# Altium integrated library TI Power Management Battery Management.IntLib: 949 symbols (part 37 of 62)
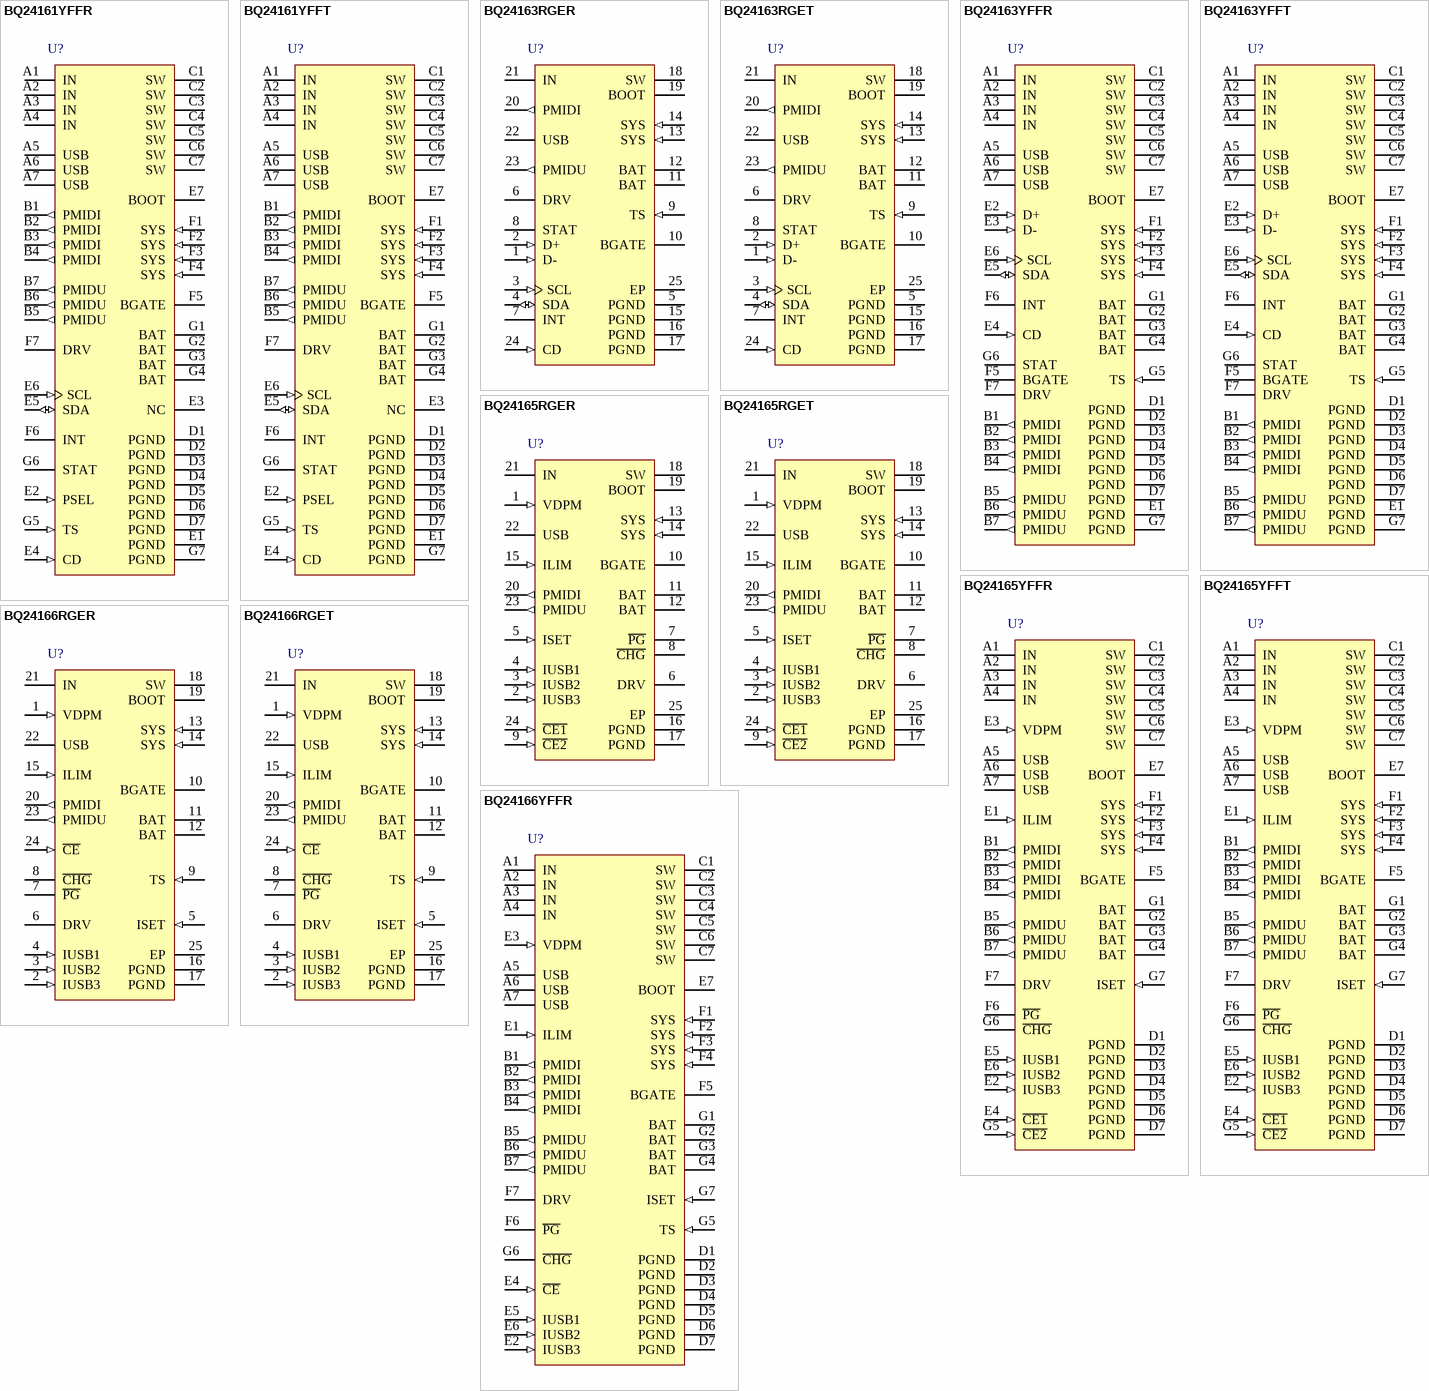
[diagram p70: symbols BQ24161YFFR to BQ24166YFFR]

## BQ24163YFFT
designator U?
2.5 A, Dual-Input, Single Cell Switchmode Li-Ion Battery Charger with Power Path, 4 V, -40 to 85 degC, 49-pin DSBGA (YFF); PartNumber: BQ24163YFFT; Manufacturer: Texas Instruments; Lead Acid: N; Li-Ion: Y; SubFamily: Battery Charge Management; Vin(Min)(V): 4; DatasheetVersion: SLUSAO0A; PackageVersion: revAG, Jun-2012; PackageReference: YFF49-2741X2741DE; PackageDescription: 49-Ball Die-Size Ball Grid Array 0.4 mm Pitch, Pb-Free; Supplier 1: Mouser; Supplier Part Number 1: N/A; Li-Polymer: Y; NiCd: N; NiMH: N; Over Voltage Protection: N; Mounting Technology: Surface Mount; ComponentLink1Description: Datasheet; ComponentLink1URL: http://www.ti.com/general/docs/lit/getliterature.tsp?genericPartNumber=BQ24163&fileType=pdf
footprint YFF49-2741X2741DE (BGA, 49-Leads, Body 2.74x2.74mm, Pitch 0.4mm, Solder Mask Defined Pads)
pins: A1 IN (power) "Input power supply - IN is connected to the external DC supply (AC adapter or alternate power source). Bypass IN to PGND with at least a 1µF ceramic capacitor.", A2 IN (power) "Input power supply - IN is connected to the external DC supply (AC adapter or alternate power source). Bypass IN to PGND with at least a 1µF ceramic capacitor.", A3 IN (power) "Input power supply - IN is connected to the external DC supply (AC adapter or alternate power source). Bypass IN to PGND with at least a 1µF ceramic capacitor.", A4 IN (power) "Input power supply - IN is connected to the external DC supply (AC adapter or alternate power source). Bypass IN to PGND with at least a 1µF ceramic capacitor.", A5 USB (power) "USB Input Power Supply - USB is connected to the external DC supply (AC adapter or USB port). Bypass USB to PGND with at least a 1µF ceramic capacitor.", A6 USB (power) "USB Input Power Supply - USB is connected to the external DC supply (AC adapter or USB port). Bypass USB to PGND with at least a 1µF ceramic capacitor.", A7 USB (power) "USB Input Power Supply - USB is connected to the external DC supply (AC adapter or USB port). Bypass USB to PGND with at least a 1µF ceramic capacitor.", B1 PMIDI (out) "Reverse Blocking MOSFET and High Side MOSFET Connection Point for High Power Input - Bypass PMIDI to GND with at least a 4.7µF ceramic capacitor. Use caution when connecting an external load to PMIDI. The PMIDI output is not (See Datasheet)", B2 PMIDI (out) "Reverse Blocking MOSFET and High Side MOSFET Connection Point for High Power Input - Bypass PMIDI to GND with at least a 4.7µF ceramic capacitor. Use caution when connecting an external load to PMIDI. The PMIDI output is not (See Datasheet)", B3 PMIDI (out) "Reverse Blocking MOSFET and High Side MOSFET Connection Point for High Power Input - Bypass PMIDI to GND with at least a 4.7µF ceramic capacitor. Use caution when connecting an external load to PMIDI. The PMIDI output is not (See Datasheet)", B4 PMIDI (out) "Reverse Blocking MOSFET and High Side MOSFET Connection Point for High Power Input - Bypass PMIDI to GND with at least a 4.7µF ceramic capacitor. Use caution when connecting an external load to PMIDI. The PMIDI output is not (See Datasheet)", B5 PMIDU (out) "Reverse Blocking MOSFET and High Side MOSFET Connection Point for USB Input - Bypass PMIDU to GND with at least a 4.7µF ceramic capacitor. Use caution when connecting an external load to PMIDU. The PMIDU output is not (See Datasheet)", B6 PMIDU (out) "Reverse Blocking MOSFET and High Side MOSFET Connection Point for USB Input - Bypass PMIDU to GND with at least a 4.7µF ceramic capacitor. Use caution when connecting an external load to PMIDU. The PMIDU output is not (See Datasheet)", B7 PMIDU (out) "Reverse Blocking MOSFET and High Side MOSFET Connection Point for USB Input - Bypass PMIDU to GND with at least a 4.7µF ceramic capacitor. Use caution when connecting an external load to PMIDU. The PMIDU output is not (See Datasheet)", C1 SW (power) "Inductor Connection - Connect to the switched side of the external inductor.", C2 SW (power) "Inductor Connection - Connect to the switched side of the external inductor.", C3 SW (power) "Inductor Connection - Connect to the switched side of the external inductor.", C4 SW (power) "Inductor Connection - Connect to the switched side of the external inductor.", C5 SW (power) "Inductor Connection - Connect to the switched side of the external inductor.", C6 SW (power) "Inductor Connection - Connect to the switched side of the external inductor.", C7 SW (power) "Inductor Connection - Connect to the switched side of the external inductor.", D1 PGND (power) "Ground terminal - Connect to the thermal pad (for QFN only) and the ground plane of the circuit.", D2 PGND (power) "Ground terminal - Connect to the thermal pad (for QFN only) and the ground plane of the circuit.", D3 PGND (power) "Ground terminal - Connect to the thermal pad (for QFN only) and the ground plane of the circuit.", D4 PGND (power) "Ground terminal - Connect to the thermal pad (for QFN only) and the ground plane of the circuit.", D5 PGND (power) "Ground terminal - Connect to the thermal pad (for QFN only) and the ground plane of the circuit.", D6 PGND (power) "Ground terminal - Connect to the thermal pad (for QFN only) and the ground plane of the circuit.", D7 PGND (power) "Ground terminal - Connect to the thermal pad (for QFN only) and the ground plane of the circuit.", E1 PGND (power) "Ground terminal - Connect to the thermal pad (for QFN only) and the ground plane of the circuit.", E2 D+ (in) "D+ and D- Connections for USB Input Adapter Detection - When a charge cycle is initiated by the USB input, and a short is detected between D+ and D-, the USB input current limit is set to 1.5A. If a short is not detected, (See Datasheet)", E3 D- (in) "D+ and D- Connections for USB Input Adapter Detection - When a charge cycle is initiated by the USB input, and a short is detected between D+ and D-, the USB input current limit is set to 1.5A. If a short is not detected, (See Datasheet)", E4 CD (in) "IC Hardware Disable Input - Drive CD high to place the bq2416x in high-z mode. Drive CD low for normal operation. Do not leave CD unconnected.", E5 SDA (io) "I2C Interface Data - Connect SDA to the logic rail through a 10kohm resistor.", E6 SCL (in) "I2C Interface Clock - Connect SCL to the logic rail through a 10kohm resistor.", E7 BOOT (power) "High Side MOSFET Gate Driver Supply - Connect a 0.01µF ceramic capacitor (voltage rating > 10V) from BOOT to SW to supply the gate drive for the high side MOSFETs.", F1 SYS (in) "System Voltage Sense and Charger FET Connection - Connect SYS to the system output at the output bulk capacitors. Bypass SYS locally with at least 10µF. A 47µF bypass capacitor is recommended for optimal transient response.", F2 SYS (in) "System Voltage Sense and Charger FET Connection - Connect SYS to the system output at the output bulk capacitors. Bypass SYS locally with at least 10µF. A 47µF bypass capacitor is recommended for optimal transient response.", F3 SYS (in) "System Voltage Sense and Charger FET Connection - Connect SYS to the system output at the output bulk capacitors. Bypass SYS locally with at least 10µF. A 47µF bypass capacitor is recommended for optimal transient response.", F4 SYS (in) "System Voltage Sense and Charger FET Connection - Connect SYS to the system output at the output bulk capacitors. Bypass SYS locally with at least 10µF. A 47µF bypass capacitor is recommended for optimal transient response.", F5 BGATE "External Discharge MOSFET Gate Connection - BGATE drives an external P-Channel MOSFET to provide a very low-resistance discharge path. Connect BGATE to the gate of the external MOSFET. BGATE is low during high impedance mode (See Datasheet)", F6 INT (hiz) "Status Output - INT is an open-drain output that signals charging status and fault interrupts.INT pulls low during charging. INT is high impedance when charging is complete or the charger is disabled. When a fault occurs, a (See Datasheet)", F7 DRV (power) "Gate Drive Supply - DRV is the bias supply for the gate drive of the internal MOSFETs. Bypass DRV to PGND with a 1µF ceramic capacitor. DRV may be used to drive external loads up to 10mA. DRV is active whenever the input is (See Datasheet)", G1 BAT (power) "Battery Connection - Connect to the positive terminal of the battery. Additionally, bypass BAT to GND with at least a 1µF capacitor.", G2 BAT (power) "Battery Connection - Connect to the positive terminal of the battery. Additionally, bypass BAT to GND with at least a 1µF capacitor.", G3 BAT (power) "Battery Connection - Connect to the positive terminal of the battery. Additionally, bypass BAT to GND with at least a 1µF capacitor.", G4 BAT (power) "Battery Connection - Connect to the positive terminal of the battery. Additionally, bypass BAT to GND with at least a 1µF capacitor.", G5 TS (in) "Battery Pack NTC Monitor - Connect TS to the center tap of a resistor divider from DRV to GND. The NTC is connected from TS to GND. The TS function provides 4 thresholds for JEITA compatibility (160/163/168 only). TS faults (See Datasheet)", G6 STAT (hiz) "I2C interface. See the NTC Monitor section for more details on operation and selecting the resistor values. Connect TS to DRV to disable the TS function.", G7 PGND (power) "Ground terminal - Connect to the thermal pad (for QFN only) and the ground plane of the circuit."

## BQ24165RGER
designator U?
2.5 A, Dual-Input, Single Cell Switchmode Li-Ion Battery Charger with Power Path Management, 4 V, -40 to 85 degC, 24-pin VQFN (RGE), Green (RoHS & no Sb/Br); PartNumber: BQ24165RGER; Manufacturer: Texas Instruments; Lead Acid: N; Li-Ion: Y; SubFamily: Battery Charge Management; Vin(Min)(V): 4; DatasheetVersion: SLUSAP4A; PackageVersion: revG, Jul-2011; PackageReference: RGE24-2700X2700TP; PackageDescription: 24-Pin Plastic Quad Flatpack No-Lead, 4 x 4 mm Body, 0.5 mm Pitch; Supplier 1: Digi-Key; Supplier Part Number 1: BQ24165RGER-ND; Supplier 2: Newark; Supplier Part Number 2: 94T0297; Supplier 3: Mouser; Supplier Part Number 3: 595-BQ24165RGER; Eco-Plan: Green (RoHS & no Sb/Br); Li-Polymer: Y; NiCd: N; NiMH: N; Over Voltage Protection: N; Mounting Technology: Surface Mount; Code_JEDEC: MO-220; ComponentLink1Description: Datasheet; ComponentLink1URL: http://www.ti.com/general/docs/lit/getliterature.tsp?genericPartNumber=BQ24165&fileType=pdf
footprint RGE24-2700X2700TP (QFN, 24-Leads, Body 4x4mm, Pitch 0.5mm, Thermal Pad 2.7x2.7mm, TI Recommended)
pins: 1 VDPM (in) "Input DPM Programming Input. Connect a resistor divider from IN to GND with VDPM connected to the center tap to program the Input Voltage based Dynamic Power Management (VIN-DPM) threshold. The input current is reduced to (See Datasheet)", 2 IUSB3 (in) "USB Input Current Limit Programming Input. USB3 program the input current limit for the USB input.  USB3.0 current limit is available for easy implementation of these standards. Table 1 shows the settings for these inputs.  (See Datasheet)", 3 IUSB2 (in) "USB Input Current Limit Programming Input. USB2 program the input current limit for the USB input. USB2.0  current limits are available for easy implementation of these standards. Table 1 shows the settings for these inputs. (See Datasheet)", 4 IUSB1 (in) "USB Input Current Limit Programming Input. USB1 program the input current limit for the USB input.  Table 1 shows the settings for these inputs. USB1 have no effect on the IN input", 5 ISET (in) "Charge Current Programming Input. Connect a resistor from ISET to GND to program the fast charge current. The charge current is programmable from 550mA to 2.5A.", 6 DRV (power) "Gate Drive Supply. DRV is the bias supply for the gate drive of the internal MOSFETs. Bypass DRV to PGND with a 1uF ceramic capacitor. DRV may be used to drive external loads up to 10mA. DRV is active whenever the input is (See Datasheet)", 7 ~{PG} (hiz) "Power Good Open Drain Output. P\G\  is pulled low when a valid supply is connected to either USB or IN. A valid supply is between VBAT+VSLP and VOVP. If not supply is connected or the supply is out of this range, P\G\ is (See Datasheet)", 8 ~{CHG} (hiz) "Charge Status Open Drain Output. C\H\G\ is pulled low when a charge cycle starts and remains low while charging. C\H\G\ is high impedance when the charging terminates and when no supply exists. C\H\G\ does not indicate (See Datasheet)", 9 ~{CE2} (in) "JEITA Compliance Inputs. C\E\1\ and C\E\2\ are used to change battery regulation and charge current regulation to comply with the JEITA charging standard. The charge voltage can be reduced by 140mV or the charge current may (See Datasheet)", 10 BGATE (hiz) "External Discharge MOSFET Gate Connection. BGATE drives an external PChannel MOSFET to provide a very low resistance discharge path. Connect BGATE to the gate of the external MOSFET. BGATE is low during high impedance mode (See Datasheet)", 11 BAT (power) "Battery Connection. Connect to the positive terminal of the battery. Additionally, bypass BAT to GND with at least a 1uF capacitor", 12 BAT (power) "Battery Connection .Connect to the positive terminal of the battery. Additionally, bypass BAT to GND with at least a 1uF capacitor", 13 SYS (in) "System Voltage Sense and Charger FET Connection . Connect SYS to the system output at the output bulk capacitors. Bypass SYS locally with at least 10uF. A 47uF bypass capacitor is recommended for optimal transient response.", 14 SYS (in) "System Voltage Sense and Charger FET Connection . Connect SYS to the system output at the output bulk capacitors. Bypass SYS locally with at least 10uF. A 47uF bypass capacitor is recommended for optimal transient response.", 15 ILIM (in) "IN Input Current Limit Programming Input. Connect a resistor from ILIM to GND to program the input current limit for IN. The current limit is programmable from 1A to 2.5A. ILIM has no effect on the USB input", 16 PGND (power) "Ground terminal . Connect to the thermal pad (for QFN only) and the ground plane of the circuit.", 17 PGND (power) "Ground terminal . Connect to the thermal pad (for QFN only) and the ground plane of the circuit.", 18 SW (power) "Inductor Connection . Connect to the switched side of the external inductor.", 19 BOOT (power) "High Side MOSFET Gate Driver Supply . Connect a 0.01uF ceramic capacitor (voltage rating > 10V) from BOOT to SW to supply the gate drive for the high side MOSFETs", 20 PMIDI (out) "Reverse Blocking MOSFET and High Side MOSFET Connection Point for High Power Input. Bypass PMIDI to GND with at least a 4.7uF ceramic capacitor. Use caution when connecting an external load to PMIDI. The PMIDI output is not (See Datasheet)", 21 IN (power) "Input power supply . IN is connected to the external DC supply (AC adapter or alternate power source). Bypass IN to PGND with at least a 1uF ceramic capacitor", 22 USB (power) "USB Input Power Supply . USB is connected to the external DC supply (AC adapter or USB port). Bypass USB to PGND with at least a 1uF ceramic capacitor", 23 PMIDU (out) "Reverse Blocking MOSFET and High Side MOSFET Connection Point for USB Input. Bypass PMIDU to GND with at least a 4.7uF ceramic capacitor. Use caution when connecting an external load to PMIDU. The PMIDU output is not current (See Datasheet)", 24 ~{CE1} (in) "JEITA Compliance Inputs. C\E\1\ and C\E\2\ are used to change battery regulation and charge current regulation to comply with the JEITA charging standard. The charge voltage can be reduced by 140mV or the charge current may (See Datasheet)", 25 EP (power) "There is an internal electrical connection between the exposed thermal pad and the PGND pin of the device. The thermal pad must be connected to the same potential as the PGND pin on the printed circuit board. Do not use the (See Datasheet)"

## BQ24165RGET
designator U?
2.5 A, Dual-Input, Single Cell Switchmode Li-Ion Battery Charger with Power Path Management, 4 V, -40 to 85 degC, 24-pin VQFN (RGE), Green (RoHS & no Sb/Br); PartNumber: BQ24165RGET; Manufacturer: Texas Instruments; Lead Acid: N; Li-Ion: y; SubFamily: Battery Charge Management; Vin(Min)(V): 4.0; DatasheetVersion: SLUSAP4A; PackageVersion: revG, Jul-2011; PackageReference: RGE24-2700X2700TP; PackageDescription: 24-Pin Plastic Quad Flatpack No-Lead, 4 x 4 mm Body, 0.5 mm Pitch; Supplier 1: Digi-Key; Supplier Part Number 1: BQ24165RGET-ND; Supplier 2: Newark; Supplier Part Number 2: 94T0298; Supplier 3: Mouser; Supplier Part Number 3: 595-BQ24165RGET; Eco-Plan: Green (RoHS & no Sb/Br); Li-Polymer: y; NiCd: N; NiMH: N; Over Voltage Protection: N; Mounting Technology: Surface Mount; Code_JEDEC: MO-220; ComponentLink1Description: Datasheet; ComponentLink1URL: http://www.ti.com/general/docs/lit/getliterature.tsp?genericPartNumber=BQ24165&fileType=pdf
footprint RGE24-2700X2700TP (QFN, 24-Leads, Body 4x4mm, Pitch 0.5mm, Thermal Pad 2.7x2.7mm, TI Recommended)
pins: 1 VDPM (in) "Input DPM Programming Input. Connect a resistor divider from IN to GND with VDPM connected to the center tap to program the Input Voltage based Dynamic Power Management (VIN-DPM) threshold. The input current is reduced to (See Datasheet)", 2 IUSB3 (in) "USB Input Current Limit Programming Input. USB3 program the input current limit for the USB input.  USB3.0 current limit is available for easy implementation of these standards. Table 1 shows the settings for these inputs.  (See Datasheet)", 3 IUSB2 (in) "USB Input Current Limit Programming Input. USB2 program the input current limit for the USB input. USB2.0  current limits are available for easy implementation of these standards. Table 1 shows the settings for these inputs. (See Datasheet)", 4 IUSB1 (in) "USB Input Current Limit Programming Input. USB1 program the input current limit for the USB input.  Table 1 shows the settings for these inputs. USB1 have no effect on the IN input", 5 ISET (in) "Charge Current Programming Input. Connect a resistor from ISET to GND to program the fast charge current. The charge current is programmable from 550mA to 2.5A.", 6 DRV (power) "Gate Drive Supply. DRV is the bias supply for the gate drive of the internal MOSFETs. Bypass DRV to PGND with a 1uF ceramic capacitor. DRV may be used to drive external loads up to 10mA. DRV is active whenever the input is (See Datasheet)", 7 ~{PG} (hiz) "Power Good Open Drain Output. P\G\  is pulled low when a valid supply is connected to either USB or IN. A valid supply is between VBAT+VSLP and VOVP. If not supply is connected or the supply is out of this range, P\G\ is (See Datasheet)", 8 ~{CHG} (hiz) "Charge Status Open Drain Output. C\H\G\ is pulled low when a charge cycle starts and remains low while charging. C\H\G\ is high impedance when the charging terminates and when no supply exists. C\H\G\ does not indicate (See Datasheet)", 9 ~{CE2} (in) "JEITA Compliance Inputs. C\E\1\ and C\E\2\ are used to change battery regulation and charge current regulation to comply with the JEITA charging standard. The charge voltage can be reduced by 140mV or the charge current may (See Datasheet)", 10 BGATE (hiz) "External Discharge MOSFET Gate Connection. BGATE drives an external PChannel MOSFET to provide a very low resistance discharge path. Connect BGATE to the gate of the external MOSFET. BGATE is low during high impedance mode (See Datasheet)", 11 BAT (power) "Battery Connection. Connect to the positive terminal of the battery. Additionally, bypass BAT to GND with at least a 1uF capacitor", 12 BAT (power) "Battery Connection .Connect to the positive terminal of the battery. Additionally, bypass BAT to GND with at least a 1uF capacitor", 13 SYS (in) "System Voltage Sense and Charger FET Connection . Connect SYS to the system output at the output bulk capacitors. Bypass SYS locally with at least 10uF. A 47uF bypass capacitor is recommended for optimal transient response.", 14 SYS (in) "System Voltage Sense and Charger FET Connection . Connect SYS to the system output at the output bulk capacitors. Bypass SYS locally with at least 10uF. A 47uF bypass capacitor is recommended for optimal transient response.", 15 ILIM (in) "IN Input Current Limit Programming Input. Connect a resistor from ILIM to GND to program the input current limit for IN. The current limit is programmable from 1A to 2.5A. ILIM has no effect on the USB input", 16 PGND (power) "Ground terminal . Connect to the thermal pad (for QFN only) and the ground plane of the circuit.", 17 PGND (power) "Ground terminal . Connect to the thermal pad (for QFN only) and the ground plane of the circuit.", 18 SW (power) "Inductor Connection . Connect to the switched side of the external inductor.", 19 BOOT (power) "High Side MOSFET Gate Driver Supply . Connect a 0.01uF ceramic capacitor (voltage rating > 10V) from BOOT to SW to supply the gate drive for the high side MOSFETs", 20 PMIDI (out) "Reverse Blocking MOSFET and High Side MOSFET Connection Point for High Power Input. Bypass PMIDI to GND with at least a 4.7uF ceramic capacitor. Use caution when connecting an external load to PMIDI. The PMIDI output is not (See Datasheet)", 21 IN (power) "Input power supply . IN is connected to the external DC supply (AC adapter or alternate power source). Bypass IN to PGND with at least a 1uF ceramic capacitor", 22 USB (power) "USB Input Power Supply . USB is connected to the external DC supply (AC adapter or USB port). Bypass USB to PGND with at least a 1uF ceramic capacitor", 23 PMIDU (out) "Reverse Blocking MOSFET and High Side MOSFET Connection Point for USB Input. Bypass PMIDU to GND with at least a 4.7uF ceramic capacitor. Use caution when connecting an external load to PMIDU. The PMIDU output is not current (See Datasheet)", 24 ~{CE1} (in) "JEITA Compliance Inputs. C\E\1\ and C\E\2\ are used to change battery regulation and charge current regulation to comply with the JEITA charging standard. The charge voltage can be reduced by 140mV or the charge current may (See Datasheet)", 25 EP (power) "There is an internal electrical connection between the exposed thermal pad and the PGND pin of the device. The thermal pad must be connected to the same potential as the PGND pin on the printed circuit board. Do not use the (See Datasheet)"

## BQ24165YFFR
designator U?
2.5 A, Dual-Input, Single Cell Switchmode Li-Ion Battery Charger with Power Path Management, 4 V, -40 to 85 degC, 49-pin DSBGA (YFF), Green (RoHS & no Sb/Br); PartNumber: BQ24165YFFR; Manufacturer: Texas Instruments; Lead Acid: N; Li-Ion: Y; SubFamily: Battery Charge Management; Vin(Min)(V): 4; DatasheetVersion: SLUSAP4A; PackageVersion: revAH, Jul-2012; PackageReference: YFF49-2780X2780DE; PackageDescription: 49-Ball Die-Size Ball Grid Array 0.4 mm Pitch, Pb-Free; Supplier 1: Digi-Key; Supplier Part Number 1: 296-30104-2-ND; Supplier 2: Digi-Key; Supplier Part Number 2: 296-30104-1-ND; Supplier 3: Digi-Key; Supplier Part Number 3: 296-30104-6-ND; Supplier 4: Newark; Supplier Part Number 4: 76T5261; Supplier 5: Mouser; Supplier Part Number 5: 595-BQ24165YFFR; Eco-Plan: Green (RoHS & no Sb/Br); Li-Polymer: Y; NiCd: N; NiMH: N; Over Voltage Protection: N; Mounting Technology: Surface Mount; ComponentLink1Description: Datasheet; ComponentLink1URL: http://www.ti.com/general/docs/lit/getliterature.tsp?genericPartNumber=BQ24165&fileType=pdf
footprint YFF49-2780X2780DE (BGA, 49-Leads, Body 2.78x2.78mm, Pitch 0.4mm, Solder Mask Defined Pads)
pins: A1 IN (power) "Input power supply - IN is connected to the external DC supply (AC adapter or alternate power source). Bypass IN to PGND with at least a 1uF ceramic capacitor", A2 IN (power) "Input power supply - IN is connected to the external DC supply (AC adapter or alternate power source). Bypass IN to PGND with at least a 1uF ceramic capacitor", A3 IN (power) "Input power supply - IN is connected to the external DC supply (AC adapter or alternate power source). Bypass IN to PGND with at least a 1uF ceramic capacitor", A4 IN (power) "Input power supply - IN is connected to the external DC supply (AC adapter or alternate power source). Bypass IN to PGND with at least a 1uF ceramic capacitor", A5 USB (power) "USB Input Power Supply - USB is connected to the external DC supply (AC adapter or USB port). Bypass USB to PGND with at least a 1uF ceramic capacitor", A6 USB (power) "USB Input Power Supply - USB is connected to the external DC supply (AC adapter or USB port). Bypass USB to PGND with at least a 1uF ceramic capacitor", A7 USB (power) "USB Input Power Supply - USB is connected to the external DC supply (AC adapter or USB port). Bypass USB to PGND with at least a 1uF ceramic capacitor", B1 PMIDI (out) "Reverse Blocking MOSFET and High Side MOSFET Connection Point for High Power Input - Bypass PMIDI to GND with at least a 4.7uF ceramic capacitor. Use caution when connecting an external load to PMIDI. The PMIDI output is not (See Datasheet)", B2 PMIDI (out) "Reverse Blocking MOSFET and High Side MOSFET Connection Point for High Power Input - Bypass PMIDI to GND with at least a 4.7uF ceramic capacitor. Use caution when connecting an external load to PMIDI. The PMIDI output is not (See Datasheet)", B3 PMIDI (out) "Reverse Blocking MOSFET and High Side MOSFET Connection Point for High Power Input - Bypass PMIDI to GND with at least a 4.7uF ceramic capacitor. Use caution when connecting an external load to PMIDI. The PMIDI output is not (See Datasheet)", B4 PMIDI (out) "Reverse Blocking MOSFET and High Side MOSFET Connection Point for High Power Input - Bypass PMIDI to GND with at least a 4.7uF ceramic capacitor. Use caution when connecting an external load to PMIDI. The PMIDI output is not (See Datasheet)", B5 PMIDU (out) "Reverse Blocking MOSFET and High Side MOSFET Connection Point for USB Input - Bypass PMIDU to GND with at least a 4.7uF ceramic capacitor. Use caution when connecting an external load to PMIDU. The PMIDU output is not (See Datasheet)", B6 PMIDU (out) "Reverse Blocking MOSFET and High Side MOSFET Connection Point for USB Input - Bypass PMIDU to GND with at least a 4.7uF ceramic capacitor. Use caution when connecting an external load to PMIDU. The PMIDU output is not (See Datasheet)", B7 PMIDU (out) "Reverse Blocking MOSFET and High Side MOSFET Connection Point for USB Input - Bypass PMIDU to GND with at least a 4.7uF ceramic capacitor. Use caution when connecting an external load to PMIDU. The PMIDU output is not (See Datasheet)", C1 SW (power) "Inductor Connection - Connect to the switched side of the external inductor.", C2 SW (power) "Inductor Connection - Connect to the switched side of the external inductor.", C3 SW (power) "Inductor Connection - Connect to the switched side of the external inductor.", C4 SW (power) "Inductor Connection - Connect to the switched side of the external inductor.", C5 SW (power) "Inductor Connection - Connect to the switched side of the external inductor.", C6 SW (power) "Inductor Connection - Connect to the switched side of the external inductor.", C7 SW (power) "Inductor Connection - Connect to the switched side of the external inductor.", D1 PGND (power) "Ground terminal - Connect to the thermal pad (for QFN only) and the ground plane of the circuit.", D2 PGND (power) "Ground terminal - Connect to the thermal pad (for QFN only) and the ground plane of the circuit.", D3 PGND (power) "Ground terminal - Connect to the thermal pad (for QFN only) and the ground plane of the circuit.", D4 PGND (power) "Ground terminal - Connect to the thermal pad (for QFN only) and the ground plane of the circuit.", D5 PGND (power) "Ground terminal - Connect to the thermal pad (for QFN only) and the ground plane of the circuit.", D6 PGND (power) "Ground terminal - Connect to the thermal pad (for QFN only) and the ground plane of the circuit.", D7 PGND (power) "Ground terminal - Connect to the thermal pad (for QFN only) and the ground plane of the circuit.", E1 ILIM (in) "IN Input Current Limit Programming Input. Connect a resistor from ILIM to GND to program the input current limit for IN. The current limit is programmable from 1A to 2.5A. ILIM has no effect on the USB input", E2 IUSB3 (in) "USB Input Current Limit Programming Inputs. USB1, USB2 and USB3 program the input current limit for the USB input. USB2.0 and USB3.0 current limits are available for easy implementation of these standards. Table 1 shows the (See Datasheet)", E3 VDPM (in) "Input DPM Programming Input. Connect a resistor divider from IN to GND with VDPM connected to the center tap to program the Input Voltage based Dynamic Power Management (VIN-DPM) threshold. The input current is reduced to (See Datasheet)", E4 ~{CE1} (in) "JEITA Compliance Inputs. C\E\1\ and C\E\2\ are used to change battery regulation and charge current regulation to comply with the JEITA charging standard. The charge voltage can be reduced by 140mV or the charge current may (See Datasheet)", E5 IUSB1 (in) "USB Input Current Limit Programming Inputs. USB1, USB2 and USB3 program the input current limit for the USB input. USB2.0 and USB3.0 current limits are available for easy implementation of these standards. Table 1 shows the (See Datasheet)", E6 IUSB2 (in) "USB Input Current Limit Programming Inputs. USB1, USB2 and USB3 program the input current limit for the USB input. USB2.0 and USB3.0 current limits are available for easy implementation of these standards. Table 1 shows the (See Datasheet)", E7 BOOT (power) "High Side MOSFET Gate Driver Supply - Connect a 0.01µF ceramic capacitor (voltage rating > 10V) from BOOT to SW to supply the gate drive for the high side MOSFETs", F1 SYS (in) "System Voltage Sense and Charger FET Connection - Connect SYS to the system output at the output bulk capacitors. Bypass SYS locally with at least 10uF. A 47uF bypass capacitor is recommended for optimal transient response.", F2 SYS (in) "System Voltage Sense and Charger FET Connection - Connect SYS to the system output at the output bulk capacitors. Bypass SYS locally with at least 10uF. A 47uF bypass capacitor is recommended for optimal transient response.", F3 SYS (in) "System Voltage Sense and Charger FET Connection - Connect SYS to the system output at the output bulk capacitors. Bypass SYS locally with at least 10uF. A 47uF bypass capacitor is recommended for optimal transient response.", F4 SYS (in) "System Voltage Sense and Charger FET Connection - Connect SYS to the system output at the output bulk capacitors. Bypass SYS locally with at least 10uF. A 47uF bypass capacitor is recommended for optimal transient response.", F5 BGATE "External Discharge MOSFET Gate Connection - BGATE drives an external PChannel MOSFET to provide a very low-resistance discharge path. Connect BGATE to the gate of the external MOSFET. BGATE is low during high impedance mode (See Datasheet)", F6 ~{PG} (hiz) "Power Good Open Drain Output. P\G\  is pulled low when a valid supply is connected to either USB or IN. A valid supply is between VBAT+VSLP and VOVP. If not supply is connected or the supply is out of this range, P\G\ is high (See Datasheet)", F7 DRV (power) "Gate Drive Supply - DRV is the bias supply for the gate drive of the internal MOSFETs. Bypass DRV to PGND with a 1uF ceramic capacitor. DRV may be used to drive external loads up to 10mA. DRV is active whenever the input is (See Datasheet)", G1 BAT (power) "Battery Connection - Connect to the positive terminal of the battery. Additionally, bypass BAT to GND with at least a 1uF capacitor", G2 BAT (power) "Battery Connection - Connect to the positive terminal of the battery. Additionally, bypass BAT to GND with at least a 1uF capacitor", G3 BAT (power) "Battery Connection - Connect to the positive terminal of the battery. Additionally, bypass BAT to GND with at least a 1uF capacitor", G4 BAT (power) "Battery Connection - Connect to the positive terminal of the battery. Additionally, bypass BAT to GND with at least a 1uF capacitor", G5 ~{CE2} (in) "JEITA Compliance Inputs. C\E\1\ and C\E\2\ are used to change battery regulation and charge current regulation to comply with the JEITA charging standard. The charge voltage can be reduced by 140mV or the charge current may (See Datasheet)", G6 ~{CHG} (hiz) "Charge Status Open Drain Output. C\H\G\ is pulled low when a charge cycle starts and remains low while charging. C\H\G\ is high impedance when the charging terminates and when no supply exists. C\H\G\ does not indicate (See Datasheet)", G7 ISET (in) "Charge Current Programming Input. Connect a resistor from ISET to GND to program the fast charge current. The charge current is programmable from 550mA to 2.5A."

## BQ24165YFFT
designator U?
2.5 A, Dual-Input, Single Cell Switchmode Li-Ion Battery Charger with Power Path Management, 4 V, -40 to 85 degC, 49-pin DSBGA (YFF), Green (RoHS & no Sb/Br); PartNumber: BQ24165YFFT; Manufacturer: Texas Instruments; Lead Acid: N; Li-Ion: Y; SubFamily: Battery Charge Management; Vin(Min)(V): 4.0; DatasheetVersion: SLUSAP4A; PackageVersion: revAH, Jul-2012; PackageReference: YFF49-2780X2780DE; PackageDescription: 49-Ball Die-Size Ball Grid Array 0.4 mm Pitch, Pb-Free; Supplier 1: Digi-Key; Supplier Part Number 1: 296-30166-2-ND; Supplier 2: Digi-Key; Supplier Part Number 2: 296-30166-1-ND; Supplier 3: Digi-Key; Supplier Part Number 3: 296-30166-6-ND; Supplier 4: Farnell; Supplier Part Number 4: 2078507; Supplier 5: Newark; Supplier Part Number 5: 83T0351; Supplier 6: Newark; Supplier Part Number 6: 76T5262; Supplier 7: Mouser; Supplier Part Number 7: 595-BQ24165YFFT; Eco-Plan: Green (RoHS & no Sb/Br); Li-Polymer: Y; NiCd: N; NiMH: N; Over Voltage Protection: N; Mounting Technology: Surface Mount; ComponentLink1Description: Datasheet; ComponentLink1URL: http://www.ti.com/general/docs/lit/getliterature.tsp?genericPartNumber=BQ24165&fileType=pdf
footprint YFF49-2780X2780DE (BGA, 49-Leads, Body 2.78x2.78mm, Pitch 0.4mm, Solder Mask Defined Pads)
pins: A1 IN (power) "Input power supply - IN is connected to the external DC supply (AC adapter or alternate power source). Bypass IN to PGND with at least a 1uF ceramic capacitor", A2 IN (power) "Input power supply - IN is connected to the external DC supply (AC adapter or alternate power source). Bypass IN to PGND with at least a 1uF ceramic capacitor", A3 IN (power) "Input power supply - IN is connected to the external DC supply (AC adapter or alternate power source). Bypass IN to PGND with at least a 1uF ceramic capacitor", A4 IN (power) "Input power supply - IN is connected to the external DC supply (AC adapter or alternate power source). Bypass IN to PGND with at least a 1uF ceramic capacitor", A5 USB (power) "USB Input Power Supply - USB is connected to the external DC supply (AC adapter or USB port). Bypass USB to PGND with at least a 1uF ceramic capacitor", A6 USB (power) "USB Input Power Supply - USB is connected to the external DC supply (AC adapter or USB port). Bypass USB to PGND with at least a 1uF ceramic capacitor", A7 USB (power) "USB Input Power Supply - USB is connected to the external DC supply (AC adapter or USB port). Bypass USB to PGND with at least a 1uF ceramic capacitor", B1 PMIDI (out) "Reverse Blocking MOSFET and High Side MOSFET Connection Point for High Power Input - Bypass PMIDI to GND with at least a 4.7uF ceramic capacitor. Use caution when connecting an external load to PMIDI. The PMIDI output is not (See Datasheet)", B2 PMIDI (out) "Reverse Blocking MOSFET and High Side MOSFET Connection Point for High Power Input - Bypass PMIDI to GND with at least a 4.7uF ceramic capacitor. Use caution when connecting an external load to PMIDI. The PMIDI output is not (See Datasheet)", B3 PMIDI (out) "Reverse Blocking MOSFET and High Side MOSFET Connection Point for High Power Input - Bypass PMIDI to GND with at least a 4.7uF ceramic capacitor. Use caution when connecting an external load to PMIDI. The PMIDI output is not (See Datasheet)", B4 PMIDI (out) "Reverse Blocking MOSFET and High Side MOSFET Connection Point for High Power Input - Bypass PMIDI to GND with at least a 4.7uF ceramic capacitor. Use caution when connecting an external load to PMIDI. The PMIDI output is not (See Datasheet)", B5 PMIDU (out) "Reverse Blocking MOSFET and High Side MOSFET Connection Point for USB Input - Bypass PMIDU to GND with at least a 4.7uF ceramic capacitor. Use caution when connecting an external load to PMIDU. The PMIDU output is not (See Datasheet)", B6 PMIDU (out) "Reverse Blocking MOSFET and High Side MOSFET Connection Point for USB Input - Bypass PMIDU to GND with at least a 4.7uF ceramic capacitor. Use caution when connecting an external load to PMIDU. The PMIDU output is not (See Datasheet)", B7 PMIDU (out) "Reverse Blocking MOSFET and High Side MOSFET Connection Point for USB Input - Bypass PMIDU to GND with at least a 4.7uF ceramic capacitor. Use caution when connecting an external load to PMIDU. The PMIDU output is not (See Datasheet)", C1 SW (power) "Inductor Connection - Connect to the switched side of the external inductor.", C2 SW (power) "Inductor Connection - Connect to the switched side of the external inductor.", C3 SW (power) "Inductor Connection - Connect to the switched side of the external inductor.", C4 SW (power) "Inductor Connection - Connect to the switched side of the external inductor.", C5 SW (power) "Inductor Connection - Connect to the switched side of the external inductor.", C6 SW (power) "Inductor Connection - Connect to the switched side of the external inductor.", C7 SW (power) "Inductor Connection - Connect to the switched side of the external inductor.", D1 PGND (power) "Ground terminal - Connect to the thermal pad (for QFN only) and the ground plane of the circuit.", D2 PGND (power) "Ground terminal - Connect to the thermal pad (for QFN only) and the ground plane of the circuit.", D3 PGND (power) "Ground terminal - Connect to the thermal pad (for QFN only) and the ground plane of the circuit.", D4 PGND (power) "Ground terminal - Connect to the thermal pad (for QFN only) and the ground plane of the circuit.", D5 PGND (power) "Ground terminal - Connect to the thermal pad (for QFN only) and the ground plane of the circuit.", D6 PGND (power) "Ground terminal - Connect to the thermal pad (for QFN only) and the ground plane of the circuit.", D7 PGND (power) "Ground terminal - Connect to the thermal pad (for QFN only) and the ground plane of the circuit.", E1 ILIM (in) "IN Input Current Limit Programming Input. Connect a resistor from ILIM to GND to program the input current limit for IN. The current limit is programmable from 1A to 2.5A. ILIM has no effect on the USB input", E2 IUSB3 (in) "USB Input Current Limit Programming Inputs. USB1, USB2 and USB3 program the input current limit for the USB input. USB2.0 and USB3.0 current limits are available for easy implementation of these standards. Table 1 shows the (See Datasheet)", E3 VDPM (in) "Input DPM Programming Input. Connect a resistor divider from IN to GND with VDPM connected to the center tap to program the Input Voltage based Dynamic Power Management (VIN-DPM) threshold. The input current is reduced to (See Datasheet)", E4 ~{CE1} (in) "JEITA Compliance Inputs. C\E\1\ and C\E\2\ are used to change battery regulation and charge current regulation to comply with the JEITA charging standard. The charge voltage can be reduced by 140mV or the charge current may (See Datasheet)", E5 IUSB1 (in) "USB Input Current Limit Programming Inputs. USB1, USB2 and USB3 program the input current limit for the USB input. USB2.0 and USB3.0 current limits are available for easy implementation of these standards. Table 1 shows the (See Datasheet)", E6 IUSB2 (in) "USB Input Current Limit Programming Inputs. USB1, USB2 and USB3 program the input current limit for the USB input. USB2.0 and USB3.0 current limits are available for easy implementation of these standards. Table 1 shows the (See Datasheet)", E7 BOOT (power) "High Side MOSFET Gate Driver Supply - Connect a 0.01µF ceramic capacitor (voltage rating > 10V) from BOOT to SW to supply the gate drive for the high side MOSFETs", F1 SYS (in) "System Voltage Sense and Charger FET Connection - Connect SYS to the system output at the output bulk capacitors. Bypass SYS locally with at least 10uF. A 47uF bypass capacitor is recommended for optimal transient response.", F2 SYS (in) "System Voltage Sense and Charger FET Connection - Connect SYS to the system output at the output bulk capacitors. Bypass SYS locally with at least 10uF. A 47uF bypass capacitor is recommended for optimal transient response.", F3 SYS (in) "System Voltage Sense and Charger FET Connection - Connect SYS to the system output at the output bulk capacitors. Bypass SYS locally with at least 10uF. A 47uF bypass capacitor is recommended for optimal transient response.", F4 SYS (in) "System Voltage Sense and Charger FET Connection - Connect SYS to the system output at the output bulk capacitors. Bypass SYS locally with at least 10uF. A 47uF bypass capacitor is recommended for optimal transient response.", F5 BGATE "External Discharge MOSFET Gate Connection - BGATE drives an external PChannel MOSFET to provide a very low-resistance discharge path. Connect BGATE to the gate of the external MOSFET. BGATE is low during high impedance mode (See Datasheet)", F6 ~{PG} (hiz) "Power Good Open Drain Output. P\G\  is pulled low when a valid supply is connected to either USB or IN. A valid supply is between VBAT+VSLP and VOVP. If not supply is connected or the supply is out of this range, P\G\ is high (See Datasheet)", F7 DRV (power) "Gate Drive Supply - DRV is the bias supply for the gate drive of the internal MOSFETs. Bypass DRV to PGND with a 1uF ceramic capacitor. DRV may be used to drive external loads up to 10mA. DRV is active whenever the input is (See Datasheet)", G1 BAT (power) "Battery Connection - Connect to the positive terminal of the battery. Additionally, bypass BAT to GND with at least a 1uF capacitor", G2 BAT (power) "Battery Connection - Connect to the positive terminal of the battery. Additionally, bypass BAT to GND with at least a 1uF capacitor", G3 BAT (power) "Battery Connection - Connect to the positive terminal of the battery. Additionally, bypass BAT to GND with at least a 1uF capacitor", G4 BAT (power) "Battery Connection - Connect to the positive terminal of the battery. Additionally, bypass BAT to GND with at least a 1uF capacitor", G5 ~{CE2} (in) "JEITA Compliance Inputs. C\E\1\ and C\E\2\ are used to change battery regulation and charge current regulation to comply with the JEITA charging standard. The charge voltage can be reduced by 140mV or the charge current may (See Datasheet)", G6 ~{CHG} (hiz) "Charge Status Open Drain Output. C\H\G\ is pulled low when a charge cycle starts and remains low while charging. C\H\G\ is high impedance when the charging terminates and when no supply exists. C\H\G\ does not indicate (See Datasheet)", G7 ISET (in) "Charge Current Programming Input. Connect a resistor from ISET to GND to program the fast charge current. The charge current is programmable from 550mA to 2.5A."

## BQ24166RGER
designator U?
2.5 A, Dual-Input, Single Cell Switchmode Li-Ion Battery Charger with Power Path Management, 4 V, -40 to 85 degC, 24-pin VQFN (RGE), Green (RoHS & no Sb/Br); PartNumber: BQ24166RGER; Manufacturer: Texas Instruments; Lead Acid: N; Li-Ion: Y; SubFamily: Battery Charge Management; Vin(Min)(V): 4; DatasheetVersion: SLUSAP4A; PackageVersion: revG, Jul-2011; PackageReference: RGE24-2700X2700TP; PackageDescription: 24-Pin Plastic Quad Flatpack No-Lead, 4 x 4 mm Body, 0.5 mm Pitch; Supplier 1: Digi-Key; Supplier Part Number 1: BQ24166RGER-ND; Supplier 2: Newark; Supplier Part Number 2: 94T0299; Supplier 3: Mouser; Supplier Part Number 3: 595-BQ24166RGER; Eco-Plan: Green (RoHS & no Sb/Br); Li-Polymer: Y; NiCd: N; NiMH: N; Over Voltage Protection: N; Mounting Technology: Surface Mount; Code_JEDEC: MO-220; ComponentLink1Description: Datasheet; ComponentLink1URL: http://www.ti.com/general/docs/lit/getliterature.tsp?genericPartNumber=BQ24166&fileType=pdf
footprint RGE24-2700X2700TP (QFN, 24-Leads, Body 4x4mm, Pitch 0.5mm, Thermal Pad 2.7x2.7mm, TI Recommended)
pins: 1 VDPM (in) "Input DPM Programming Input. Connect a resistor divider from IN to GND with VDPM connected to the center tap to program the Input Voltage based Dynamic Power Management (VIN-DPM) threshold. The input current is reduced to (See Datasheet)", 2 IUSB3 (in) "USB Input Current Limit Programming Inputs. USB1, USB2 and USB3 program the input current limit for the USB input. USB2.0 and USB3.0 current limits are available for easy implementation of these standards. Table 1 shows the (See Datasheet)", 3 IUSB2 (in) "USB Input Current Limit Programming Inputs. USB1, USB2 and USB3 program the input current limit for the USB input. USB2.0 and USB3.0 current limits are available for easy implementation of these standards. Table 1 shows the (See Datasheet)", 4 IUSB1 (in) "USB Input Current Limit Programming Inputs. USB1, USB2 and USB3 program the input current limit for the USB input. USB2.0 and USB3.0 current limits are available for easy implementation of these standards. Table 1 shows the (See Datasheet)", 5 ISET (in) "Charge Current Programming Input. Connect a resistor from ISET to GND to program the fast charge current. The charge current is programmable from 550mA to 2.5A.", 6 DRV (power) "Gate Drive Supply. DRV is the bias supply for the gate drive of the internal MOSFETs. bypass DRV to PGND with a 1 uF ceramic capacitor. DRV may be used to drive external loads up to 10mA. DRV is active whenever the input is (See Datasheet)", 7 ~{PG} (hiz) "Power Good Open Drain Output. P\G\ is pulled low when a valid supply is connected to either USB or IN. A valid supply is between VBAT+VSLP and VOVP. If not supply is connected or the supply is out of this range, P\G\ is high (See Datasheet)", 8 ~{CHG} (hiz) "Charge Status Open Drain Output. C\H\G\ is pulled low when a charge cycle starts and remains low while charging. C\H\G\ is high impedance when the charging terminates and when no supply exists. C\H\G\ does not indicate (See Datasheet)", 9 TS (in) "Battery Pack NTC Monitor. Connect TS to the center tap of a resistor divider from DRV to GND. The NTC is connected from TS to GND. The TS function in the bq24166 provides 2 thresholds for Hot/ Cold shutoff, while the bq24167 (See Datasheet)", 10 BGATE "External Discharge MOSFET Gate Connection. BGATE drives an external P-Channel MOSFET to provide a very low resistance discharge path. Connect BGATE to the gate of the external MOSFET. BGATE is low during high impedance mode (See Datasheet)", 11 BAT (power) "Battery Connection. Connect to the positive terminal of the battery. Additionally, bypass BAT to GND with at least a 1 uF capacitor.", 12 BAT (power) "Battery Connection. Connect to the positive terminal of the battery. Additionally, bypass BAT to GND with at least a 1 uF capacitor.", 13 SYS (in) "System Voltage Sense and Charger FET Connection. Connect SYS to the system output at the output bulk capacitors. Bypass SYS locally with at least 10 uF. 47 uF bypass capacitance is recommended for best transient response.", 14 SYS (in) "System Voltage Sense and Charger FET Connection. Connect SYS to the system output at the output bulk capacitors. Bypass SYS locally with at least 10 uF. 47 uF bypass capacitance is recommended for best transient response.", 15 ILIM (in) "IN Input Current Limit Programming Input. Connect a resistor from ILIM to GND to program the input current limit for IN. The current limit is programmable from 1A to 2.5A. ILIM has no effect on the USB input.", 16 PGND (power) "Ground terminal.", 17 PGND (power) "Ground terminal.", 18 SW (power) "Inductor Connection. Connect to the switched side of the external inductor.", 19 BOOT (power) "High Side MOSFET Gate Driver Supply. Connect a 0.01 uF ceramic capacitor (voltage rating > 10V) from BOOT to SW to supply the gate drive for the high side MOSFETs.", 20 PMIDI (out) "Reverse Blocking MOSFET and High Side MOSFET Connection Point for High Power Input. Bypass PMIDI to GND with at least a 4.7 uF ceramic capacitor. Use caution when connecting an external load to PMIDI. The PMIDI output is not (See Datasheet)", 21 IN (power) "Input power supply. IN is connected to the external DC supply (AC adapter or alternate power source). Bypass IN to PGND with at least a 1 uF ceramic capacitor.", 22 USB (power) "USB Input Power Supply. USB is connected to the external DC supply (AC adapter or USB port). Bypass USB to PGND with at least a 1 uF ceramic capacitor.", 23 PMIDU (out) "Reverse Blocking MOSFET and High Side MOSFET Connection Point for USB Input. Bypass PMIDU to GND with at least a 4.7 uF ceramic capacitor. Use caution when connecting an external load to PMIDU. The PMIDU output is not (See Datasheet)", 24 ~{CE} (in) "Charge Enable Input. C\E\ is used to disable or enable the charge process. A low logic level (0) enables charging and a high logic level (1) disables charging. When charging is disabled, the SYS output remains in regulation, (See Datasheet)", 25 EP (power) "There is an internal electrical connection between the exposed thermal pad and the PGND pin of the device. The thermal pad must be connected to the same potential as the PGND pin on the printed circuit board. Do not use the (See Datasheet)"